# Altium schematic symbol library INDUCTOR_FERRITE.SchLib: 1 symbol
Pins are listed as number, name and electrical type; pins without a type are passive.

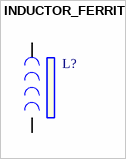
[diagram p0: symbol INDUCTOR_FERRITE]

## INDUCTOR_FERRITE
designator L?
IND FER BEAD 120 OHM@100MHZ 0.5A 25% 0402
pins: 1, 2